# Altium schematic symbol library MTLW-101-05-G-S-000.SchLib: 1 symbol
Pins are listed as number, name and electrical type; pins without a type are passive.

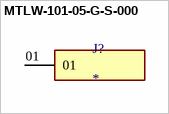
[diagram p0: symbol MTLW-101-05-G-S-000]

## MTLW-101-05-G-S-000
designator J?
MP: MTLW-101-05-G-S-000; Price: None; Availability: Unavailable; Value: *; Package: None
footprint SAMTEC_MTLW-101-05-G-S-000
pins: 01